# EAGLE library part AK4103 (library akm)
Digital Audio Transmitter (DIT) Single Output, 24-Bit, 192 kHz
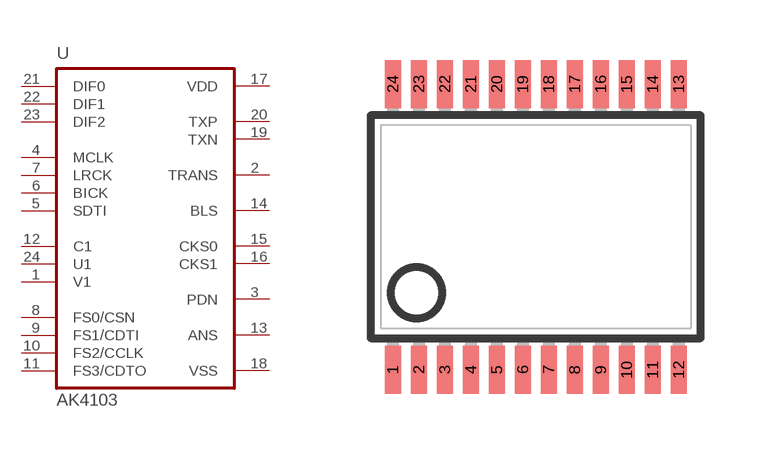
[diagram p3: symbol with the pads of VSOP24; footprint VSOP24]

Designator prefix U

## AK4103A  [VSOP24]
1  V1  in
2  TRANS  in
3  PDN  in
4  MCLK  in
5  SDTI  in
6  BICK
7  LRCK
8  FS0/CSN
9  FS1/CDTI
10  FS2/CCLK
11  FS3/CDTO
12  C1  in
13  ANS
14  BLS
15  CKS0  in
16  CKS1  in
17  VDD
18  VSS
19  TXN  out
20  TXP  out
21  DIF0  in
22  DIF1  in
23  DIF2  in
24  U1  in

## Footprint VSOP24 (pad centres in mm)
VSOP24 7.8 x 5.6 mm, pitch .65 mm
smd 0.4 x 1.2: 1 -3.575,-3.57; 2 -2.925,-3.57; 3 -2.275,-3.57; 4 -1.625,-3.57; 5 -0.975,-3.57; 6 -0.325,-3.57; 7 0.325,-3.57; 8 0.975,-3.57; 9 1.625,-3.57; 10 2.275,-3.57; 11 2.925,-3.57; 12 3.575,-3.57; 13 3.575,3.57; 14 2.925,3.57; 15 2.275,3.57; 16 1.625,3.57; 17 0.975,3.57; 18 0.325,3.57; 19 -0.325,3.57; 20 -0.975,3.57; 21 -1.625,3.57; 22 -2.275,3.57; 23 -2.925,3.57; 24 -3.575,3.57